# Altium schematic symbol library LCENA2520MKT2R2M0NK.SchLib: 1 symbol
Pins are listed as number, name and electrical type; pins without a type are passive.

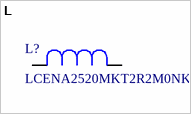
[diagram p0: symbol L]

## L
designator L?, comment LCENA2520MKT2R2M0NK
No Description Available; Manufacturer_Name: TAIYO YUDEN; Copyright: Copyright (C) 2026 Ultra Librarian. All rights reserved.; Manufacturer_Part_Number: LCENA2520MKT2R2M0NK
footprint IND_LCEN_2520MK_TAY
pins: 1, 2